# Altium integrated library Maxim Supervisors, Voltage Monitors and Sequencers.IntLib: 631 symbols (part 11 of 13)
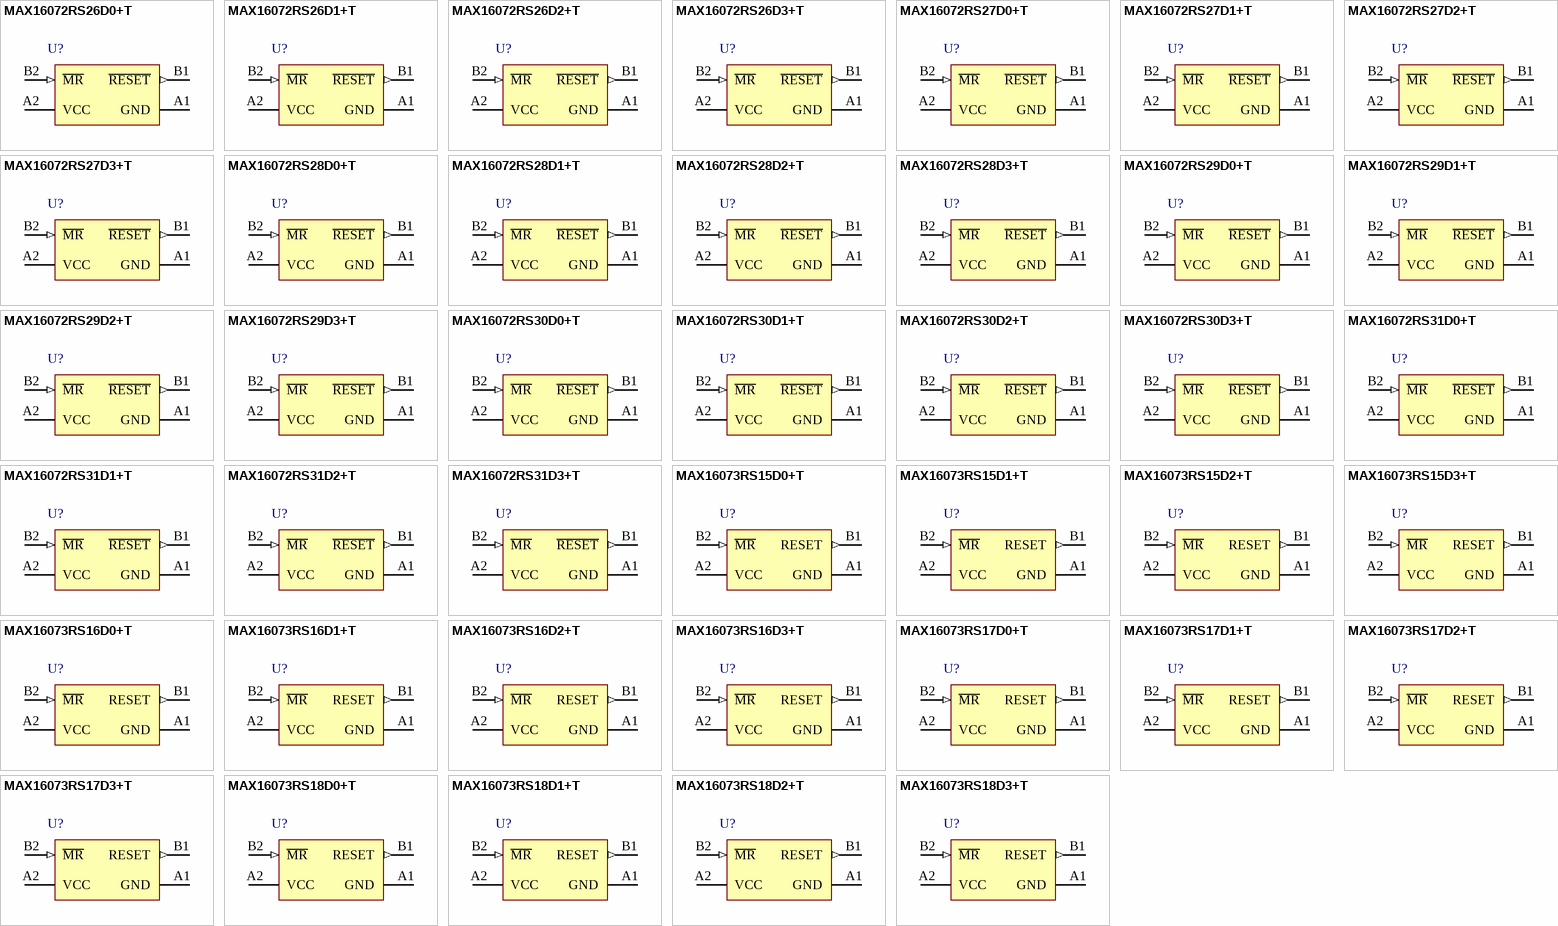
[diagram p27: symbols MAX16072RS26D0+T to MAX16073RS18D3+T]

## MAX16072RS30D3+T
designator U?
uP Supervisory Circuit, push-pull active-low reset, 4-Pin UCSP, -40°C to +85°C, Pb-Free, Tape and Reel; DatasheetVersion: Rev 0, Jan-2010; PackageVersion: revA, 2008; PackageReference: R41C1+1; PackageDescription: 4-Bump Ultra Chip-Scale Package 2x2 Array, 1x1 mm Body, 0.5 mm Pitch, UCSP (R), Pb-Free; ComponentLink1Description: Manufacturer URL; ComponentLink1URL: http://www.maxim-ic.com; ComponentLink2Description: Datasheet; ComponentLink2URL: http://datasheets.maxim-ic.com/en/ds/MAX16072-MAX16074.pdf; ComponentLink3Description: Package Specification; ComponentLink3URL: http://pdfserv.maxim-ic.com/package_dwgs/21-0242.PDF
footprint R41C1+1 (BGA, 4-Leads, Body 1.1x1.1mm, Pitch 0.5mm)
pins: A1 GND (power), A2 VCC (power), B1 ~{RESET} (out), B2 ~{MR} (in)

## MAX16072RS31D0+T
designator U?
uP Supervisory Circuit, push-pull active-low reset, 4-Pin UCSP, -40°C to +85°C, Pb-Free, Tape and Reel; DatasheetVersion: Rev 0, Jan-2010; PackageVersion: revA, 2008; PackageReference: R41C1+1; PackageDescription: 4-Bump Ultra Chip-Scale Package 2x2 Array, 1x1 mm Body, 0.5 mm Pitch, UCSP (R), Pb-Free; ComponentLink1Description: Manufacturer URL; ComponentLink1URL: http://www.maxim-ic.com; ComponentLink2Description: Datasheet; ComponentLink2URL: http://datasheets.maxim-ic.com/en/ds/MAX16072-MAX16074.pdf; ComponentLink3Description: Package Specification; ComponentLink3URL: http://pdfserv.maxim-ic.com/package_dwgs/21-0242.PDF
footprint R41C1+1 (BGA, 4-Leads, Body 1.1x1.1mm, Pitch 0.5mm)
pins: A1 GND (power), A2 VCC (power), B1 ~{RESET} (out), B2 ~{MR} (in)

## MAX16072RS31D1+T
designator U?
uP Supervisory Circuit, push-pull active-low reset, 4-Pin UCSP, -40°C to +85°C, Pb-Free, Tape and Reel; DatasheetVersion: Rev 0, Jan-2010; PackageVersion: revA, 2008; PackageReference: R41C1+1; PackageDescription: 4-Bump Ultra Chip-Scale Package 2x2 Array, 1x1 mm Body, 0.5 mm Pitch, UCSP (R), Pb-Free; ComponentLink1Description: Manufacturer URL; ComponentLink1URL: http://www.maxim-ic.com; ComponentLink2Description: Datasheet; ComponentLink2URL: http://datasheets.maxim-ic.com/en/ds/MAX16072-MAX16074.pdf; ComponentLink3Description: Package Specification; ComponentLink3URL: http://pdfserv.maxim-ic.com/package_dwgs/21-0242.PDF
footprint R41C1+1 (BGA, 4-Leads, Body 1.1x1.1mm, Pitch 0.5mm)
pins: A1 GND (power), A2 VCC (power), B1 ~{RESET} (out), B2 ~{MR} (in)

## MAX16072RS31D2+T
designator U?
uP Supervisory Circuit, push-pull active-low reset, 4-Pin UCSP, -40°C to +85°C, Pb-Free, Tape and Reel; DatasheetVersion: Rev 0, Jan-2010; PackageVersion: revA, 2008; PackageReference: R41C1+1; PackageDescription: 4-Bump Ultra Chip-Scale Package 2x2 Array, 1x1 mm Body, 0.5 mm Pitch, UCSP (R), Pb-Free; ComponentLink1Description: Manufacturer URL; ComponentLink1URL: http://www.maxim-ic.com; ComponentLink2Description: Datasheet; ComponentLink2URL: http://datasheets.maxim-ic.com/en/ds/MAX16072-MAX16074.pdf; ComponentLink3Description: Package Specification; ComponentLink3URL: http://pdfserv.maxim-ic.com/package_dwgs/21-0242.PDF
footprint R41C1+1 (BGA, 4-Leads, Body 1.1x1.1mm, Pitch 0.5mm)
pins: A1 GND (power), A2 VCC (power), B1 ~{RESET} (out), B2 ~{MR} (in)

## MAX16072RS31D3+T
designator U?
uP Supervisory Circuit, push-pull active-low reset, 4-Pin UCSP, -40°C to +85°C, Pb-Free, Tape and Reel; DatasheetVersion: Rev 0, Jan-2010; PackageVersion: revA, 2008; PackageReference: R41C1+1; PackageDescription: 4-Bump Ultra Chip-Scale Package 2x2 Array, 1x1 mm Body, 0.5 mm Pitch, UCSP (R), Pb-Free; ComponentLink1Description: Manufacturer URL; ComponentLink1URL: http://www.maxim-ic.com; ComponentLink2Description: Datasheet; ComponentLink2URL: http://datasheets.maxim-ic.com/en/ds/MAX16072-MAX16074.pdf; ComponentLink3Description: Package Specification; ComponentLink3URL: http://pdfserv.maxim-ic.com/package_dwgs/21-0242.PDF
footprint R41C1+1 (BGA, 4-Leads, Body 1.1x1.1mm, Pitch 0.5mm)
pins: A1 GND (power), A2 VCC (power), B1 ~{RESET} (out), B2 ~{MR} (in)

## MAX16073RS15D0+T
designator U?
uP Supervisory Circuit, push-pull active-high reset, 4-Pin UCSP, -40°C to +85°C, Pb-Free, Tape and Reel; DatasheetVersion: Rev 0, Jan-2010; PackageVersion: revA, 2008; PackageReference: R41C1+1; PackageDescription: 4-Bump Ultra Chip-Scale Package 2x2 Array, 1x1 mm Body, 0.5 mm Pitch, UCSP (R), Pb-Free; ComponentLink1Description: Manufacturer URL; ComponentLink1URL: http://www.maxim-ic.com; ComponentLink2Description: Datasheet; ComponentLink2URL: http://datasheets.maxim-ic.com/en/ds/MAX16072-MAX16074.pdf; ComponentLink3Description: Package Specification; ComponentLink3URL: http://pdfserv.maxim-ic.com/package_dwgs/21-0242.PDF
footprint R41C1+1 (BGA, 4-Leads, Body 1.1x1.1mm, Pitch 0.5mm)
pins: A1 GND (power), A2 VCC (power), B1 RESET (out), B2 ~{MR} (in)

## MAX16073RS15D1+T
designator U?
uP Supervisory Circuit, push-pull active-high reset, 4-Pin UCSP, -40°C to +85°C, Pb-Free, Tape and Reel; DatasheetVersion: Rev 0, Jan-2010; PackageVersion: revA, 2008; PackageReference: R41C1+1; PackageDescription: 4-Bump Ultra Chip-Scale Package 2x2 Array, 1x1 mm Body, 0.5 mm Pitch, UCSP (R), Pb-Free; ComponentLink1Description: Manufacturer URL; ComponentLink1URL: http://www.maxim-ic.com; ComponentLink2Description: Datasheet; ComponentLink2URL: http://datasheets.maxim-ic.com/en/ds/MAX16072-MAX16074.pdf; ComponentLink3Description: Package Specification; ComponentLink3URL: http://pdfserv.maxim-ic.com/package_dwgs/21-0242.PDF
footprint R41C1+1 (BGA, 4-Leads, Body 1.1x1.1mm, Pitch 0.5mm)
pins: A1 GND (power), A2 VCC (power), B1 RESET (out), B2 ~{MR} (in)

## MAX16073RS15D2+T
designator U?
uP Supervisory Circuit, push-pull active-high reset, 4-Pin UCSP, -40°C to +85°C, Pb-Free, Tape and Reel; DatasheetVersion: Rev 0, Jan-2010; PackageVersion: revA, 2008; PackageReference: R41C1+1; PackageDescription: 4-Bump Ultra Chip-Scale Package 2x2 Array, 1x1 mm Body, 0.5 mm Pitch, UCSP (R), Pb-Free; ComponentLink1Description: Manufacturer URL; ComponentLink1URL: http://www.maxim-ic.com; ComponentLink2Description: Datasheet; ComponentLink2URL: http://datasheets.maxim-ic.com/en/ds/MAX16072-MAX16074.pdf; ComponentLink3Description: Package Specification; ComponentLink3URL: http://pdfserv.maxim-ic.com/package_dwgs/21-0242.PDF
footprint R41C1+1 (BGA, 4-Leads, Body 1.1x1.1mm, Pitch 0.5mm)
pins: A1 GND (power), A2 VCC (power), B1 RESET (out), B2 ~{MR} (in)

## MAX16073RS15D3+T
designator U?
uP Supervisory Circuit, push-pull active-high reset, 4-Pin UCSP, -40°C to +85°C, Pb-Free, Tape and Reel; DatasheetVersion: Rev 0, Jan-2010; PackageVersion: revA, 2008; PackageReference: R41C1+1; PackageDescription: 4-Bump Ultra Chip-Scale Package 2x2 Array, 1x1 mm Body, 0.5 mm Pitch, UCSP (R), Pb-Free; ComponentLink1Description: Manufacturer URL; ComponentLink1URL: http://www.maxim-ic.com; ComponentLink2Description: Datasheet; ComponentLink2URL: http://datasheets.maxim-ic.com/en/ds/MAX16072-MAX16074.pdf; ComponentLink3Description: Package Specification; ComponentLink3URL: http://pdfserv.maxim-ic.com/package_dwgs/21-0242.PDF
footprint R41C1+1 (BGA, 4-Leads, Body 1.1x1.1mm, Pitch 0.5mm)
pins: A1 GND (power), A2 VCC (power), B1 RESET (out), B2 ~{MR} (in)

## MAX16073RS16D0+T
designator U?
uP Supervisory Circuit, push-pull active-high reset, 4-Pin UCSP, -40°C to +85°C, Pb-Free, Tape and Reel; DatasheetVersion: Rev 0, Jan-2010; PackageVersion: revA, 2008; PackageReference: R41C1+1; PackageDescription: 4-Bump Ultra Chip-Scale Package 2x2 Array, 1x1 mm Body, 0.5 mm Pitch, UCSP (R), Pb-Free; ComponentLink1Description: Manufacturer URL; ComponentLink1URL: http://www.maxim-ic.com; ComponentLink2Description: Datasheet; ComponentLink2URL: http://datasheets.maxim-ic.com/en/ds/MAX16072-MAX16074.pdf; ComponentLink3Description: Package Specification; ComponentLink3URL: http://pdfserv.maxim-ic.com/package_dwgs/21-0242.PDF
footprint R41C1+1 (BGA, 4-Leads, Body 1.1x1.1mm, Pitch 0.5mm)
pins: A1 GND (power), A2 VCC (power), B1 RESET (out), B2 ~{MR} (in)

## MAX16073RS16D1+T
designator U?
uP Supervisory Circuit, push-pull active-high reset, 4-Pin UCSP, -40°C to +85°C, Pb-Free, Tape and Reel; DatasheetVersion: Rev 0, Jan-2010; PackageVersion: revA, 2008; PackageReference: R41C1+1; PackageDescription: 4-Bump Ultra Chip-Scale Package 2x2 Array, 1x1 mm Body, 0.5 mm Pitch, UCSP (R), Pb-Free; ComponentLink1Description: Manufacturer URL; ComponentLink1URL: http://www.maxim-ic.com; ComponentLink2Description: Datasheet; ComponentLink2URL: http://datasheets.maxim-ic.com/en/ds/MAX16072-MAX16074.pdf; ComponentLink3Description: Package Specification; ComponentLink3URL: http://pdfserv.maxim-ic.com/package_dwgs/21-0242.PDF
footprint R41C1+1 (BGA, 4-Leads, Body 1.1x1.1mm, Pitch 0.5mm)
pins: A1 GND (power), A2 VCC (power), B1 RESET (out), B2 ~{MR} (in)

## MAX16073RS16D2+T
designator U?
uP Supervisory Circuit, push-pull active-high reset, 4-Pin UCSP, -40°C to +85°C, Pb-Free, Tape and Reel; DatasheetVersion: Rev 0, Jan-2010; PackageVersion: revA, 2008; PackageReference: R41C1+1; PackageDescription: 4-Bump Ultra Chip-Scale Package 2x2 Array, 1x1 mm Body, 0.5 mm Pitch, UCSP (R), Pb-Free; ComponentLink1Description: Manufacturer URL; ComponentLink1URL: http://www.maxim-ic.com; ComponentLink2Description: Datasheet; ComponentLink2URL: http://datasheets.maxim-ic.com/en/ds/MAX16072-MAX16074.pdf; ComponentLink3Description: Package Specification; ComponentLink3URL: http://pdfserv.maxim-ic.com/package_dwgs/21-0242.PDF
footprint R41C1+1 (BGA, 4-Leads, Body 1.1x1.1mm, Pitch 0.5mm)
pins: A1 GND (power), A2 VCC (power), B1 RESET (out), B2 ~{MR} (in)

## MAX16073RS16D3+T
designator U?
uP Supervisory Circuit, push-pull active-high reset, 4-Pin UCSP, -40°C to +85°C, Pb-Free, Tape and Reel; DatasheetVersion: Rev 0, Jan-2010; PackageVersion: revA, 2008; PackageReference: R41C1+1; PackageDescription: 4-Bump Ultra Chip-Scale Package 2x2 Array, 1x1 mm Body, 0.5 mm Pitch, UCSP (R), Pb-Free; ComponentLink1Description: Manufacturer URL; ComponentLink1URL: http://www.maxim-ic.com; ComponentLink2Description: Datasheet; ComponentLink2URL: http://datasheets.maxim-ic.com/en/ds/MAX16072-MAX16074.pdf; ComponentLink3Description: Package Specification; ComponentLink3URL: http://pdfserv.maxim-ic.com/package_dwgs/21-0242.PDF
footprint R41C1+1 (BGA, 4-Leads, Body 1.1x1.1mm, Pitch 0.5mm)
pins: A1 GND (power), A2 VCC (power), B1 RESET (out), B2 ~{MR} (in)

## MAX16073RS17D0+T
designator U?
uP Supervisory Circuit, push-pull active-high reset, 4-Pin UCSP, -40°C to +85°C, Pb-Free, Tape and Reel; DatasheetVersion: Rev 0, Jan-2010; PackageVersion: revA, 2008; PackageReference: R41C1+1; PackageDescription: 4-Bump Ultra Chip-Scale Package 2x2 Array, 1x1 mm Body, 0.5 mm Pitch, UCSP (R), Pb-Free; ComponentLink1Description: Manufacturer URL; ComponentLink1URL: http://www.maxim-ic.com; ComponentLink2Description: Datasheet; ComponentLink2URL: http://datasheets.maxim-ic.com/en/ds/MAX16072-MAX16074.pdf; ComponentLink3Description: Package Specification; ComponentLink3URL: http://pdfserv.maxim-ic.com/package_dwgs/21-0242.PDF
footprint R41C1+1 (BGA, 4-Leads, Body 1.1x1.1mm, Pitch 0.5mm)
pins: A1 GND (power), A2 VCC (power), B1 RESET (out), B2 ~{MR} (in)

## MAX16073RS17D1+T
designator U?
uP Supervisory Circuit, push-pull active-high reset, 4-Pin UCSP, -40°C to +85°C, Pb-Free, Tape and Reel; DatasheetVersion: Rev 0, Jan-2010; PackageVersion: revA, 2008; PackageReference: R41C1+1; PackageDescription: 4-Bump Ultra Chip-Scale Package 2x2 Array, 1x1 mm Body, 0.5 mm Pitch, UCSP (R), Pb-Free; ComponentLink1Description: Manufacturer URL; ComponentLink1URL: http://www.maxim-ic.com; ComponentLink2Description: Datasheet; ComponentLink2URL: http://datasheets.maxim-ic.com/en/ds/MAX16072-MAX16074.pdf; ComponentLink3Description: Package Specification; ComponentLink3URL: http://pdfserv.maxim-ic.com/package_dwgs/21-0242.PDF
footprint R41C1+1 (BGA, 4-Leads, Body 1.1x1.1mm, Pitch 0.5mm)
pins: A1 GND (power), A2 VCC (power), B1 RESET (out), B2 ~{MR} (in)

## MAX16073RS17D2+T
designator U?
uP Supervisory Circuit, push-pull active-high reset, 4-Pin UCSP, -40°C to +85°C, Pb-Free, Tape and Reel; DatasheetVersion: Rev 0, Jan-2010; PackageVersion: revA, 2008; PackageReference: R41C1+1; PackageDescription: 4-Bump Ultra Chip-Scale Package 2x2 Array, 1x1 mm Body, 0.5 mm Pitch, UCSP (R), Pb-Free; ComponentLink1Description: Manufacturer URL; ComponentLink1URL: http://www.maxim-ic.com; ComponentLink2Description: Datasheet; ComponentLink2URL: http://datasheets.maxim-ic.com/en/ds/MAX16072-MAX16074.pdf; ComponentLink3Description: Package Specification; ComponentLink3URL: http://pdfserv.maxim-ic.com/package_dwgs/21-0242.PDF
footprint R41C1+1 (BGA, 4-Leads, Body 1.1x1.1mm, Pitch 0.5mm)
pins: A1 GND (power), A2 VCC (power), B1 RESET (out), B2 ~{MR} (in)

## MAX16073RS17D3+T
designator U?
uP Supervisory Circuit, push-pull active-high reset, 4-Pin UCSP, -40°C to +85°C, Pb-Free, Tape and Reel; DatasheetVersion: Rev 0, Jan-2010; PackageVersion: revA, 2008; PackageReference: R41C1+1; PackageDescription: 4-Bump Ultra Chip-Scale Package 2x2 Array, 1x1 mm Body, 0.5 mm Pitch, UCSP (R), Pb-Free; ComponentLink1Description: Manufacturer URL; ComponentLink1URL: http://www.maxim-ic.com; ComponentLink2Description: Datasheet; ComponentLink2URL: http://datasheets.maxim-ic.com/en/ds/MAX16072-MAX16074.pdf; ComponentLink3Description: Package Specification; ComponentLink3URL: http://pdfserv.maxim-ic.com/package_dwgs/21-0242.PDF
footprint R41C1+1 (BGA, 4-Leads, Body 1.1x1.1mm, Pitch 0.5mm)
pins: A1 GND (power), A2 VCC (power), B1 RESET (out), B2 ~{MR} (in)

## MAX16073RS18D0+T
designator U?
uP Supervisory Circuit, push-pull active-high reset, 4-Pin UCSP, -40°C to +85°C, Pb-Free, Tape and Reel; DatasheetVersion: Rev 0, Jan-2010; PackageVersion: revA, 2008; PackageReference: R41C1+1; PackageDescription: 4-Bump Ultra Chip-Scale Package 2x2 Array, 1x1 mm Body, 0.5 mm Pitch, UCSP (R), Pb-Free; ComponentLink1Description: Manufacturer URL; ComponentLink1URL: http://www.maxim-ic.com; ComponentLink2Description: Datasheet; ComponentLink2URL: http://datasheets.maxim-ic.com/en/ds/MAX16072-MAX16074.pdf; ComponentLink3Description: Package Specification; ComponentLink3URL: http://pdfserv.maxim-ic.com/package_dwgs/21-0242.PDF
footprint R41C1+1 (BGA, 4-Leads, Body 1.1x1.1mm, Pitch 0.5mm)
pins: A1 GND (power), A2 VCC (power), B1 RESET (out), B2 ~{MR} (in)

## MAX16073RS18D1+T
designator U?
uP Supervisory Circuit, push-pull active-high reset, 4-Pin UCSP, -40°C to +85°C, Pb-Free, Tape and Reel; DatasheetVersion: Rev 0, Jan-2010; PackageVersion: revA, 2008; PackageReference: R41C1+1; PackageDescription: 4-Bump Ultra Chip-Scale Package 2x2 Array, 1x1 mm Body, 0.5 mm Pitch, UCSP (R), Pb-Free; ComponentLink1Description: Manufacturer URL; ComponentLink1URL: http://www.maxim-ic.com; ComponentLink2Description: Datasheet; ComponentLink2URL: http://datasheets.maxim-ic.com/en/ds/MAX16072-MAX16074.pdf; ComponentLink3Description: Package Specification; ComponentLink3URL: http://pdfserv.maxim-ic.com/package_dwgs/21-0242.PDF
footprint R41C1+1 (BGA, 4-Leads, Body 1.1x1.1mm, Pitch 0.5mm)
pins: A1 GND (power), A2 VCC (power), B1 RESET (out), B2 ~{MR} (in)

## MAX16073RS18D2+T
designator U?
uP Supervisory Circuit, push-pull active-high reset, 4-Pin UCSP, -40°C to +85°C, Pb-Free, Tape and Reel; DatasheetVersion: Rev 0, Jan-2010; PackageVersion: revA, 2008; PackageReference: R41C1+1; PackageDescription: 4-Bump Ultra Chip-Scale Package 2x2 Array, 1x1 mm Body, 0.5 mm Pitch, UCSP (R), Pb-Free; ComponentLink1Description: Manufacturer URL; ComponentLink1URL: http://www.maxim-ic.com; ComponentLink2Description: Datasheet; ComponentLink2URL: http://datasheets.maxim-ic.com/en/ds/MAX16072-MAX16074.pdf; ComponentLink3Description: Package Specification; ComponentLink3URL: http://pdfserv.maxim-ic.com/package_dwgs/21-0242.PDF
footprint R41C1+1 (BGA, 4-Leads, Body 1.1x1.1mm, Pitch 0.5mm)
pins: A1 GND (power), A2 VCC (power), B1 RESET (out), B2 ~{MR} (in)

## MAX16073RS18D3+T
designator U?
uP Supervisory Circuit, push-pull active-high reset, 4-Pin UCSP, -40°C to +85°C, Pb-Free, Tape and Reel; DatasheetVersion: Rev 0, Jan-2010; PackageVersion: revA, 2008; PackageReference: R41C1+1; PackageDescription: 4-Bump Ultra Chip-Scale Package 2x2 Array, 1x1 mm Body, 0.5 mm Pitch, UCSP (R), Pb-Free; ComponentLink1Description: Manufacturer URL; ComponentLink1URL: http://www.maxim-ic.com; ComponentLink2Description: Datasheet; ComponentLink2URL: http://datasheets.maxim-ic.com/en/ds/MAX16072-MAX16074.pdf; ComponentLink3Description: Package Specification; ComponentLink3URL: http://pdfserv.maxim-ic.com/package_dwgs/21-0242.PDF
footprint R41C1+1 (BGA, 4-Leads, Body 1.1x1.1mm, Pitch 0.5mm)
pins: A1 GND (power), A2 VCC (power), B1 RESET (out), B2 ~{MR} (in)

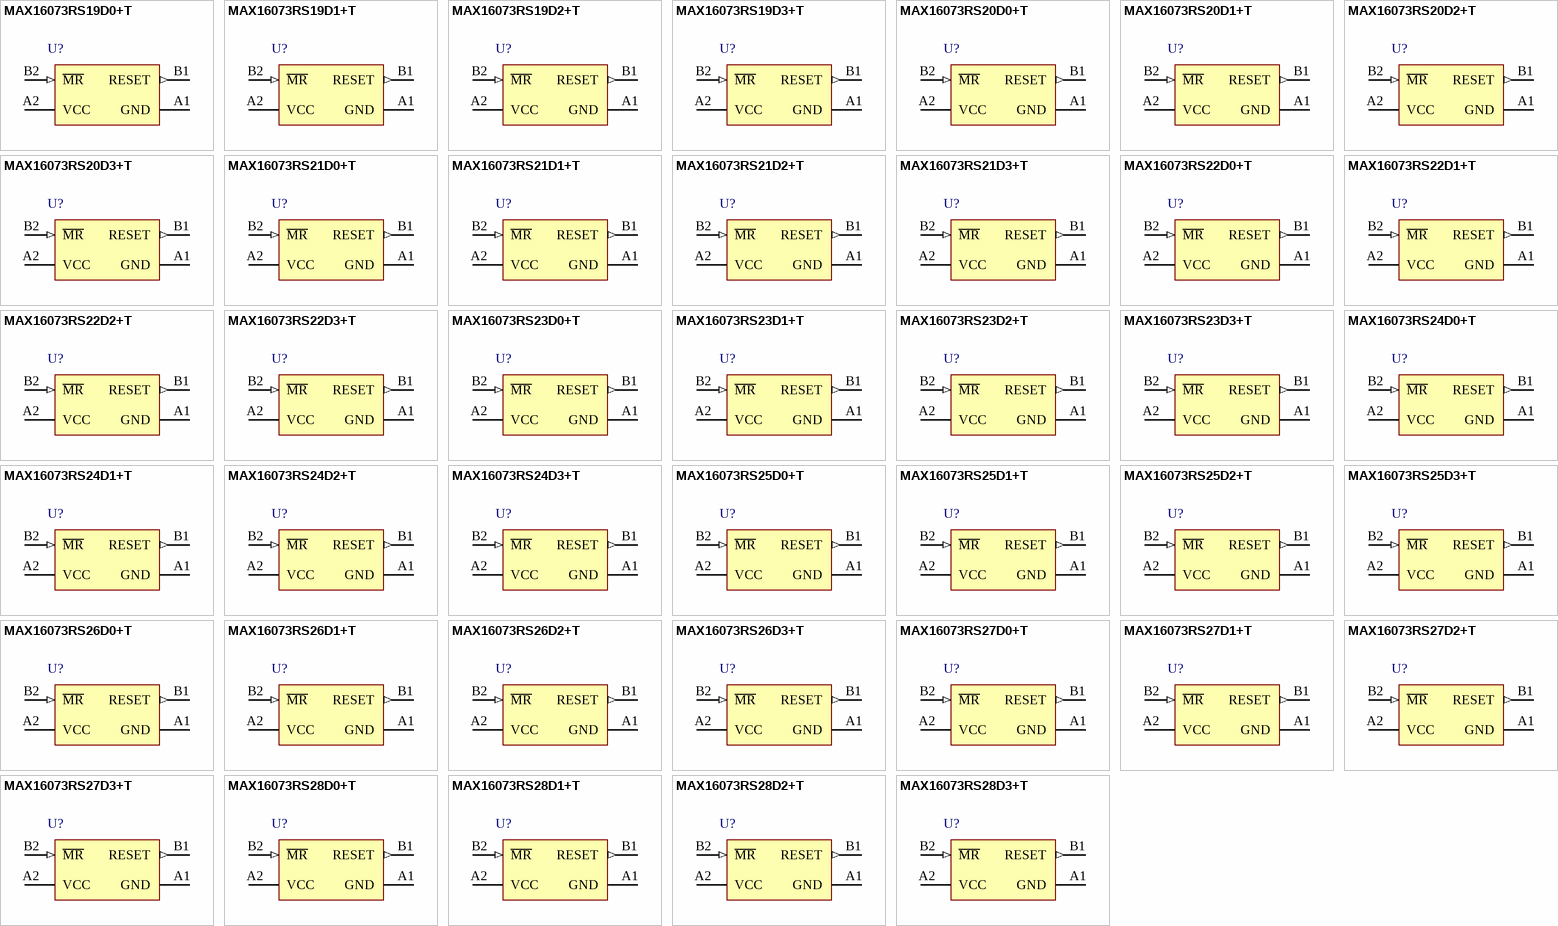
[diagram p14: symbols MAX16073RS19D0+T to MAX16073RS28D3+T]

## MAX16073RS19D0+T
designator U?
uP Supervisory Circuit, push-pull active-high reset, 4-Pin UCSP, -40°C to +85°C, Pb-Free, Tape and Reel; DatasheetVersion: Rev 0, Jan-2010; PackageVersion: revA, 2008; PackageReference: R41C1+1; PackageDescription: 4-Bump Ultra Chip-Scale Package 2x2 Array, 1x1 mm Body, 0.5 mm Pitch, UCSP (R), Pb-Free; ComponentLink1Description: Manufacturer URL; ComponentLink1URL: http://www.maxim-ic.com; ComponentLink2Description: Datasheet; ComponentLink2URL: http://datasheets.maxim-ic.com/en/ds/MAX16072-MAX16074.pdf; ComponentLink3Description: Package Specification; ComponentLink3URL: http://pdfserv.maxim-ic.com/package_dwgs/21-0242.PDF
footprint R41C1+1 (BGA, 4-Leads, Body 1.1x1.1mm, Pitch 0.5mm)
pins: A1 GND (power), A2 VCC (power), B1 RESET (out), B2 ~{MR} (in)

## MAX16073RS19D1+T
designator U?
uP Supervisory Circuit, push-pull active-high reset, 4-Pin UCSP, -40°C to +85°C, Pb-Free, Tape and Reel; DatasheetVersion: Rev 0, Jan-2010; PackageVersion: revA, 2008; PackageReference: R41C1+1; PackageDescription: 4-Bump Ultra Chip-Scale Package 2x2 Array, 1x1 mm Body, 0.5 mm Pitch, UCSP (R), Pb-Free; ComponentLink1Description: Manufacturer URL; ComponentLink1URL: http://www.maxim-ic.com; ComponentLink2Description: Datasheet; ComponentLink2URL: http://datasheets.maxim-ic.com/en/ds/MAX16072-MAX16074.pdf; ComponentLink3Description: Package Specification; ComponentLink3URL: http://pdfserv.maxim-ic.com/package_dwgs/21-0242.PDF
footprint R41C1+1 (BGA, 4-Leads, Body 1.1x1.1mm, Pitch 0.5mm)
pins: A1 GND (power), A2 VCC (power), B1 RESET (out), B2 ~{MR} (in)

## MAX16073RS19D2+T
designator U?
uP Supervisory Circuit, push-pull active-high reset, 4-Pin UCSP, -40°C to +85°C, Pb-Free, Tape and Reel; DatasheetVersion: Rev 0, Jan-2010; PackageVersion: revA, 2008; PackageReference: R41C1+1; PackageDescription: 4-Bump Ultra Chip-Scale Package 2x2 Array, 1x1 mm Body, 0.5 mm Pitch, UCSP (R), Pb-Free; ComponentLink1Description: Manufacturer URL; ComponentLink1URL: http://www.maxim-ic.com; ComponentLink2Description: Datasheet; ComponentLink2URL: http://datasheets.maxim-ic.com/en/ds/MAX16072-MAX16074.pdf; ComponentLink3Description: Package Specification; ComponentLink3URL: http://pdfserv.maxim-ic.com/package_dwgs/21-0242.PDF
footprint R41C1+1 (BGA, 4-Leads, Body 1.1x1.1mm, Pitch 0.5mm)
pins: A1 GND (power), A2 VCC (power), B1 RESET (out), B2 ~{MR} (in)

## MAX16073RS19D3+T
designator U?
uP Supervisory Circuit, push-pull active-high reset, 4-Pin UCSP, -40°C to +85°C, Pb-Free, Tape and Reel; DatasheetVersion: Rev 0, Jan-2010; PackageVersion: revA, 2008; PackageReference: R41C1+1; PackageDescription: 4-Bump Ultra Chip-Scale Package 2x2 Array, 1x1 mm Body, 0.5 mm Pitch, UCSP (R), Pb-Free; ComponentLink1Description: Manufacturer URL; ComponentLink1URL: http://www.maxim-ic.com; ComponentLink2Description: Datasheet; ComponentLink2URL: http://datasheets.maxim-ic.com/en/ds/MAX16072-MAX16074.pdf; ComponentLink3Description: Package Specification; ComponentLink3URL: http://pdfserv.maxim-ic.com/package_dwgs/21-0242.PDF
footprint R41C1+1 (BGA, 4-Leads, Body 1.1x1.1mm, Pitch 0.5mm)
pins: A1 GND (power), A2 VCC (power), B1 RESET (out), B2 ~{MR} (in)

## MAX16073RS20D0+T
designator U?
uP Supervisory Circuit, push-pull active-high reset, 4-Pin UCSP, -40°C to +85°C, Pb-Free, Tape and Reel; DatasheetVersion: Rev 0, Jan-2010; PackageVersion: revA, 2008; PackageReference: R41C1+1; PackageDescription: 4-Bump Ultra Chip-Scale Package 2x2 Array, 1x1 mm Body, 0.5 mm Pitch, UCSP (R), Pb-Free; ComponentLink1Description: Manufacturer URL; ComponentLink1URL: http://www.maxim-ic.com; ComponentLink2Description: Datasheet; ComponentLink2URL: http://datasheets.maxim-ic.com/en/ds/MAX16072-MAX16074.pdf; ComponentLink3Description: Package Specification; ComponentLink3URL: http://pdfserv.maxim-ic.com/package_dwgs/21-0242.PDF
footprint R41C1+1 (BGA, 4-Leads, Body 1.1x1.1mm, Pitch 0.5mm)
pins: A1 GND (power), A2 VCC (power), B1 RESET (out), B2 ~{MR} (in)

## MAX16073RS20D1+T
designator U?
uP Supervisory Circuit, push-pull active-high reset, 4-Pin UCSP, -40°C to +85°C, Pb-Free, Tape and Reel; DatasheetVersion: Rev 0, Jan-2010; PackageVersion: revA, 2008; PackageReference: R41C1+1; PackageDescription: 4-Bump Ultra Chip-Scale Package 2x2 Array, 1x1 mm Body, 0.5 mm Pitch, UCSP (R), Pb-Free; ComponentLink1Description: Manufacturer URL; ComponentLink1URL: http://www.maxim-ic.com; ComponentLink2Description: Datasheet; ComponentLink2URL: http://datasheets.maxim-ic.com/en/ds/MAX16072-MAX16074.pdf; ComponentLink3Description: Package Specification; ComponentLink3URL: http://pdfserv.maxim-ic.com/package_dwgs/21-0242.PDF
footprint R41C1+1 (BGA, 4-Leads, Body 1.1x1.1mm, Pitch 0.5mm)
pins: A1 GND (power), A2 VCC (power), B1 RESET (out), B2 ~{MR} (in)

## MAX16073RS20D2+T
designator U?
uP Supervisory Circuit, push-pull active-high reset, 4-Pin UCSP, -40°C to +85°C, Pb-Free, Tape and Reel; DatasheetVersion: Rev 0, Jan-2010; PackageVersion: revA, 2008; PackageReference: R41C1+1; PackageDescription: 4-Bump Ultra Chip-Scale Package 2x2 Array, 1x1 mm Body, 0.5 mm Pitch, UCSP (R), Pb-Free; ComponentLink1Description: Manufacturer URL; ComponentLink1URL: http://www.maxim-ic.com; ComponentLink2Description: Datasheet; ComponentLink2URL: http://datasheets.maxim-ic.com/en/ds/MAX16072-MAX16074.pdf; ComponentLink3Description: Package Specification; ComponentLink3URL: http://pdfserv.maxim-ic.com/package_dwgs/21-0242.PDF
footprint R41C1+1 (BGA, 4-Leads, Body 1.1x1.1mm, Pitch 0.5mm)
pins: A1 GND (power), A2 VCC (power), B1 RESET (out), B2 ~{MR} (in)

## MAX16073RS20D3+T
designator U?
uP Supervisory Circuit, push-pull active-high reset, 4-Pin UCSP, -40°C to +85°C, Pb-Free, Tape and Reel; DatasheetVersion: Rev 0, Jan-2010; PackageVersion: revA, 2008; PackageReference: R41C1+1; PackageDescription: 4-Bump Ultra Chip-Scale Package 2x2 Array, 1x1 mm Body, 0.5 mm Pitch, UCSP (R), Pb-Free; ComponentLink1Description: Manufacturer URL; ComponentLink1URL: http://www.maxim-ic.com; ComponentLink2Description: Datasheet; ComponentLink2URL: http://datasheets.maxim-ic.com/en/ds/MAX16072-MAX16074.pdf; ComponentLink3Description: Package Specification; ComponentLink3URL: http://pdfserv.maxim-ic.com/package_dwgs/21-0242.PDF
footprint R41C1+1 (BGA, 4-Leads, Body 1.1x1.1mm, Pitch 0.5mm)
pins: A1 GND (power), A2 VCC (power), B1 RESET (out), B2 ~{MR} (in)

## MAX16073RS21D0+T
designator U?
uP Supervisory Circuit, push-pull active-high reset, 4-Pin UCSP, -40°C to +85°C, Pb-Free, Tape and Reel; DatasheetVersion: Rev 0, Jan-2010; PackageVersion: revA, 2008; PackageReference: R41C1+1; PackageDescription: 4-Bump Ultra Chip-Scale Package 2x2 Array, 1x1 mm Body, 0.5 mm Pitch, UCSP (R), Pb-Free; ComponentLink1Description: Manufacturer URL; ComponentLink1URL: http://www.maxim-ic.com; ComponentLink2Description: Datasheet; ComponentLink2URL: http://datasheets.maxim-ic.com/en/ds/MAX16072-MAX16074.pdf; ComponentLink3Description: Package Specification; ComponentLink3URL: http://pdfserv.maxim-ic.com/package_dwgs/21-0242.PDF
footprint R41C1+1 (BGA, 4-Leads, Body 1.1x1.1mm, Pitch 0.5mm)
pins: A1 GND (power), A2 VCC (power), B1 RESET (out), B2 ~{MR} (in)

## MAX16073RS21D1+T
designator U?
uP Supervisory Circuit, push-pull active-high reset, 4-Pin UCSP, -40°C to +85°C, Pb-Free, Tape and Reel; DatasheetVersion: Rev 0, Jan-2010; PackageVersion: revA, 2008; PackageReference: R41C1+1; PackageDescription: 4-Bump Ultra Chip-Scale Package 2x2 Array, 1x1 mm Body, 0.5 mm Pitch, UCSP (R), Pb-Free; ComponentLink1Description: Manufacturer URL; ComponentLink1URL: http://www.maxim-ic.com; ComponentLink2Description: Datasheet; ComponentLink2URL: http://datasheets.maxim-ic.com/en/ds/MAX16072-MAX16074.pdf; ComponentLink3Description: Package Specification; ComponentLink3URL: http://pdfserv.maxim-ic.com/package_dwgs/21-0242.PDF
footprint R41C1+1 (BGA, 4-Leads, Body 1.1x1.1mm, Pitch 0.5mm)
pins: A1 GND (power), A2 VCC (power), B1 RESET (out), B2 ~{MR} (in)

## MAX16073RS21D2+T
designator U?
uP Supervisory Circuit, push-pull active-high reset, 4-Pin UCSP, -40°C to +85°C, Pb-Free, Tape and Reel; DatasheetVersion: Rev 0, Jan-2010; PackageVersion: revA, 2008; PackageReference: R41C1+1; PackageDescription: 4-Bump Ultra Chip-Scale Package 2x2 Array, 1x1 mm Body, 0.5 mm Pitch, UCSP (R), Pb-Free; ComponentLink1Description: Manufacturer URL; ComponentLink1URL: http://www.maxim-ic.com; ComponentLink2Description: Datasheet; ComponentLink2URL: http://datasheets.maxim-ic.com/en/ds/MAX16072-MAX16074.pdf; ComponentLink3Description: Package Specification; ComponentLink3URL: http://pdfserv.maxim-ic.com/package_dwgs/21-0242.PDF
footprint R41C1+1 (BGA, 4-Leads, Body 1.1x1.1mm, Pitch 0.5mm)
pins: A1 GND (power), A2 VCC (power), B1 RESET (out), B2 ~{MR} (in)

## MAX16073RS21D3+T
designator U?
uP Supervisory Circuit, push-pull active-high reset, 4-Pin UCSP, -40°C to +85°C, Pb-Free, Tape and Reel; DatasheetVersion: Rev 0, Jan-2010; PackageVersion: revA, 2008; PackageReference: R41C1+1; PackageDescription: 4-Bump Ultra Chip-Scale Package 2x2 Array, 1x1 mm Body, 0.5 mm Pitch, UCSP (R), Pb-Free; ComponentLink1Description: Manufacturer URL; ComponentLink1URL: http://www.maxim-ic.com; ComponentLink2Description: Datasheet; ComponentLink2URL: http://datasheets.maxim-ic.com/en/ds/MAX16072-MAX16074.pdf; ComponentLink3Description: Package Specification; ComponentLink3URL: http://pdfserv.maxim-ic.com/package_dwgs/21-0242.PDF
footprint R41C1+1 (BGA, 4-Leads, Body 1.1x1.1mm, Pitch 0.5mm)
pins: A1 GND (power), A2 VCC (power), B1 RESET (out), B2 ~{MR} (in)

## MAX16073RS22D0+T
designator U?
uP Supervisory Circuit, push-pull active-high reset, 4-Pin UCSP, -40°C to +85°C, Pb-Free, Tape and Reel; DatasheetVersion: Rev 0, Jan-2010; PackageVersion: revA, 2008; PackageReference: R41C1+1; PackageDescription: 4-Bump Ultra Chip-Scale Package 2x2 Array, 1x1 mm Body, 0.5 mm Pitch, UCSP (R), Pb-Free; ComponentLink1Description: Manufacturer URL; ComponentLink1URL: http://www.maxim-ic.com; ComponentLink2Description: Datasheet; ComponentLink2URL: http://datasheets.maxim-ic.com/en/ds/MAX16072-MAX16074.pdf; ComponentLink3Description: Package Specification; ComponentLink3URL: http://pdfserv.maxim-ic.com/package_dwgs/21-0242.PDF
footprint R41C1+1 (BGA, 4-Leads, Body 1.1x1.1mm, Pitch 0.5mm)
pins: A1 GND (power), A2 VCC (power), B1 RESET (out), B2 ~{MR} (in)

## MAX16073RS22D1+T
designator U?
uP Supervisory Circuit, push-pull active-high reset, 4-Pin UCSP, -40°C to +85°C, Pb-Free, Tape and Reel; DatasheetVersion: Rev 0, Jan-2010; PackageVersion: revA, 2008; PackageReference: R41C1+1; PackageDescription: 4-Bump Ultra Chip-Scale Package 2x2 Array, 1x1 mm Body, 0.5 mm Pitch, UCSP (R), Pb-Free; ComponentLink1Description: Manufacturer URL; ComponentLink1URL: http://www.maxim-ic.com; ComponentLink2Description: Datasheet; ComponentLink2URL: http://datasheets.maxim-ic.com/en/ds/MAX16072-MAX16074.pdf; ComponentLink3Description: Package Specification; ComponentLink3URL: http://pdfserv.maxim-ic.com/package_dwgs/21-0242.PDF
footprint R41C1+1 (BGA, 4-Leads, Body 1.1x1.1mm, Pitch 0.5mm)
pins: A1 GND (power), A2 VCC (power), B1 RESET (out), B2 ~{MR} (in)

## MAX16073RS22D2+T
designator U?
uP Supervisory Circuit, push-pull active-high reset, 4-Pin UCSP, -40°C to +85°C, Pb-Free, Tape and Reel; DatasheetVersion: Rev 0, Jan-2010; PackageVersion: revA, 2008; PackageReference: R41C1+1; PackageDescription: 4-Bump Ultra Chip-Scale Package 2x2 Array, 1x1 mm Body, 0.5 mm Pitch, UCSP (R), Pb-Free; ComponentLink1Description: Manufacturer URL; ComponentLink1URL: http://www.maxim-ic.com; ComponentLink2Description: Datasheet; ComponentLink2URL: http://datasheets.maxim-ic.com/en/ds/MAX16072-MAX16074.pdf; ComponentLink3Description: Package Specification; ComponentLink3URL: http://pdfserv.maxim-ic.com/package_dwgs/21-0242.PDF
footprint R41C1+1 (BGA, 4-Leads, Body 1.1x1.1mm, Pitch 0.5mm)
pins: A1 GND (power), A2 VCC (power), B1 RESET (out), B2 ~{MR} (in)

## MAX16073RS22D3+T
designator U?
uP Supervisory Circuit, push-pull active-high reset, 4-Pin UCSP, -40°C to +85°C, Pb-Free, Tape and Reel; DatasheetVersion: Rev 0, Jan-2010; PackageVersion: revA, 2008; PackageReference: R41C1+1; PackageDescription: 4-Bump Ultra Chip-Scale Package 2x2 Array, 1x1 mm Body, 0.5 mm Pitch, UCSP (R), Pb-Free; ComponentLink1Description: Manufacturer URL; ComponentLink1URL: http://www.maxim-ic.com; ComponentLink2Description: Datasheet; ComponentLink2URL: http://datasheets.maxim-ic.com/en/ds/MAX16072-MAX16074.pdf; ComponentLink3Description: Package Specification; ComponentLink3URL: http://pdfserv.maxim-ic.com/package_dwgs/21-0242.PDF
footprint R41C1+1 (BGA, 4-Leads, Body 1.1x1.1mm, Pitch 0.5mm)
pins: A1 GND (power), A2 VCC (power), B1 RESET (out), B2 ~{MR} (in)

## MAX16073RS23D0+T
designator U?
uP Supervisory Circuit, push-pull active-high reset, 4-Pin UCSP, -40°C to +85°C, Pb-Free, Tape and Reel; DatasheetVersion: Rev 0, Jan-2010; PackageVersion: revA, 2008; PackageReference: R41C1+1; PackageDescription: 4-Bump Ultra Chip-Scale Package 2x2 Array, 1x1 mm Body, 0.5 mm Pitch, UCSP (R), Pb-Free; ComponentLink1Description: Manufacturer URL; ComponentLink1URL: http://www.maxim-ic.com; ComponentLink2Description: Datasheet; ComponentLink2URL: http://datasheets.maxim-ic.com/en/ds/MAX16072-MAX16074.pdf; ComponentLink3Description: Package Specification; ComponentLink3URL: http://pdfserv.maxim-ic.com/package_dwgs/21-0242.PDF
footprint R41C1+1 (BGA, 4-Leads, Body 1.1x1.1mm, Pitch 0.5mm)
pins: A1 GND (power), A2 VCC (power), B1 RESET (out), B2 ~{MR} (in)

## MAX16073RS23D1+T
designator U?
uP Supervisory Circuit, push-pull active-high reset, 4-Pin UCSP, -40°C to +85°C, Pb-Free, Tape and Reel; DatasheetVersion: Rev 0, Jan-2010; PackageVersion: revA, 2008; PackageReference: R41C1+1; PackageDescription: 4-Bump Ultra Chip-Scale Package 2x2 Array, 1x1 mm Body, 0.5 mm Pitch, UCSP (R), Pb-Free; ComponentLink1Description: Manufacturer URL; ComponentLink1URL: http://www.maxim-ic.com; ComponentLink2Description: Datasheet; ComponentLink2URL: http://datasheets.maxim-ic.com/en/ds/MAX16072-MAX16074.pdf; ComponentLink3Description: Package Specification; ComponentLink3URL: http://pdfserv.maxim-ic.com/package_dwgs/21-0242.PDF
footprint R41C1+1 (BGA, 4-Leads, Body 1.1x1.1mm, Pitch 0.5mm)
pins: A1 GND (power), A2 VCC (power), B1 RESET (out), B2 ~{MR} (in)

## MAX16073RS23D2+T
designator U?
uP Supervisory Circuit, push-pull active-high reset, 4-Pin UCSP, -40°C to +85°C, Pb-Free, Tape and Reel; DatasheetVersion: Rev 0, Jan-2010; PackageVersion: revA, 2008; PackageReference: R41C1+1; PackageDescription: 4-Bump Ultra Chip-Scale Package 2x2 Array, 1x1 mm Body, 0.5 mm Pitch, UCSP (R), Pb-Free; ComponentLink1Description: Manufacturer URL; ComponentLink1URL: http://www.maxim-ic.com; ComponentLink2Description: Datasheet; ComponentLink2URL: http://datasheets.maxim-ic.com/en/ds/MAX16072-MAX16074.pdf; ComponentLink3Description: Package Specification; ComponentLink3URL: http://pdfserv.maxim-ic.com/package_dwgs/21-0242.PDF
footprint R41C1+1 (BGA, 4-Leads, Body 1.1x1.1mm, Pitch 0.5mm)
pins: A1 GND (power), A2 VCC (power), B1 RESET (out), B2 ~{MR} (in)

## MAX16073RS23D3+T
designator U?
uP Supervisory Circuit, push-pull active-high reset, 4-Pin UCSP, -40°C to +85°C, Pb-Free, Tape and Reel; DatasheetVersion: Rev 0, Jan-2010; PackageVersion: revA, 2008; PackageReference: R41C1+1; PackageDescription: 4-Bump Ultra Chip-Scale Package 2x2 Array, 1x1 mm Body, 0.5 mm Pitch, UCSP (R), Pb-Free; ComponentLink1Description: Manufacturer URL; ComponentLink1URL: http://www.maxim-ic.com; ComponentLink2Description: Datasheet; ComponentLink2URL: http://datasheets.maxim-ic.com/en/ds/MAX16072-MAX16074.pdf; ComponentLink3Description: Package Specification; ComponentLink3URL: http://pdfserv.maxim-ic.com/package_dwgs/21-0242.PDF
footprint R41C1+1 (BGA, 4-Leads, Body 1.1x1.1mm, Pitch 0.5mm)
pins: A1 GND (power), A2 VCC (power), B1 RESET (out), B2 ~{MR} (in)

## MAX16073RS24D0+T
designator U?
uP Supervisory Circuit, push-pull active-high reset, 4-Pin UCSP, -40°C to +85°C, Pb-Free, Tape and Reel; DatasheetVersion: Rev 0, Jan-2010; PackageVersion: revA, 2008; PackageReference: R41C1+1; PackageDescription: 4-Bump Ultra Chip-Scale Package 2x2 Array, 1x1 mm Body, 0.5 mm Pitch, UCSP (R), Pb-Free; ComponentLink1Description: Manufacturer URL; ComponentLink1URL: http://www.maxim-ic.com; ComponentLink2Description: Datasheet; ComponentLink2URL: http://datasheets.maxim-ic.com/en/ds/MAX16072-MAX16074.pdf; ComponentLink3Description: Package Specification; ComponentLink3URL: http://pdfserv.maxim-ic.com/package_dwgs/21-0242.PDF
footprint R41C1+1 (BGA, 4-Leads, Body 1.1x1.1mm, Pitch 0.5mm)
pins: A1 GND (power), A2 VCC (power), B1 RESET (out), B2 ~{MR} (in)

## MAX16073RS24D1+T
designator U?
uP Supervisory Circuit, push-pull active-high reset, 4-Pin UCSP, -40°C to +85°C, Pb-Free, Tape and Reel; DatasheetVersion: Rev 0, Jan-2010; PackageVersion: revA, 2008; PackageReference: R41C1+1; PackageDescription: 4-Bump Ultra Chip-Scale Package 2x2 Array, 1x1 mm Body, 0.5 mm Pitch, UCSP (R), Pb-Free; ComponentLink1Description: Manufacturer URL; ComponentLink1URL: http://www.maxim-ic.com; ComponentLink2Description: Datasheet; ComponentLink2URL: http://datasheets.maxim-ic.com/en/ds/MAX16072-MAX16074.pdf; ComponentLink3Description: Package Specification; ComponentLink3URL: http://pdfserv.maxim-ic.com/package_dwgs/21-0242.PDF
footprint R41C1+1 (BGA, 4-Leads, Body 1.1x1.1mm, Pitch 0.5mm)
pins: A1 GND (power), A2 VCC (power), B1 RESET (out), B2 ~{MR} (in)

## MAX16073RS24D2+T
designator U?
uP Supervisory Circuit, push-pull active-high reset, 4-Pin UCSP, -40°C to +85°C, Pb-Free, Tape and Reel; DatasheetVersion: Rev 0, Jan-2010; PackageVersion: revA, 2008; PackageReference: R41C1+1; PackageDescription: 4-Bump Ultra Chip-Scale Package 2x2 Array, 1x1 mm Body, 0.5 mm Pitch, UCSP (R), Pb-Free; ComponentLink1Description: Manufacturer URL; ComponentLink1URL: http://www.maxim-ic.com; ComponentLink2Description: Datasheet; ComponentLink2URL: http://datasheets.maxim-ic.com/en/ds/MAX16072-MAX16074.pdf; ComponentLink3Description: Package Specification; ComponentLink3URL: http://pdfserv.maxim-ic.com/package_dwgs/21-0242.PDF
footprint R41C1+1 (BGA, 4-Leads, Body 1.1x1.1mm, Pitch 0.5mm)
pins: A1 GND (power), A2 VCC (power), B1 RESET (out), B2 ~{MR} (in)

## MAX16073RS24D3+T
designator U?
uP Supervisory Circuit, push-pull active-high reset, 4-Pin UCSP, -40°C to +85°C, Pb-Free, Tape and Reel; DatasheetVersion: Rev 0, Jan-2010; PackageVersion: revA, 2008; PackageReference: R41C1+1; PackageDescription: 4-Bump Ultra Chip-Scale Package 2x2 Array, 1x1 mm Body, 0.5 mm Pitch, UCSP (R), Pb-Free; ComponentLink1Description: Manufacturer URL; ComponentLink1URL: http://www.maxim-ic.com; ComponentLink2Description: Datasheet; ComponentLink2URL: http://datasheets.maxim-ic.com/en/ds/MAX16072-MAX16074.pdf; ComponentLink3Description: Package Specification; ComponentLink3URL: http://pdfserv.maxim-ic.com/package_dwgs/21-0242.PDF
footprint R41C1+1 (BGA, 4-Leads, Body 1.1x1.1mm, Pitch 0.5mm)
pins: A1 GND (power), A2 VCC (power), B1 RESET (out), B2 ~{MR} (in)

## MAX16073RS25D0+T
designator U?
uP Supervisory Circuit, push-pull active-high reset, 4-Pin UCSP, -40°C to +85°C, Pb-Free, Tape and Reel; DatasheetVersion: Rev 0, Jan-2010; PackageVersion: revA, 2008; PackageReference: R41C1+1; PackageDescription: 4-Bump Ultra Chip-Scale Package 2x2 Array, 1x1 mm Body, 0.5 mm Pitch, UCSP (R), Pb-Free; ComponentLink1Description: Manufacturer URL; ComponentLink1URL: http://www.maxim-ic.com; ComponentLink2Description: Datasheet; ComponentLink2URL: http://datasheets.maxim-ic.com/en/ds/MAX16072-MAX16074.pdf; ComponentLink3Description: Package Specification; ComponentLink3URL: http://pdfserv.maxim-ic.com/package_dwgs/21-0242.PDF
footprint R41C1+1 (BGA, 4-Leads, Body 1.1x1.1mm, Pitch 0.5mm)
pins: A1 GND (power), A2 VCC (power), B1 RESET (out), B2 ~{MR} (in)

## MAX16073RS25D1+T
designator U?
uP Supervisory Circuit, push-pull active-high reset, 4-Pin UCSP, -40°C to +85°C, Pb-Free, Tape and Reel; DatasheetVersion: Rev 0, Jan-2010; PackageVersion: revA, 2008; PackageReference: R41C1+1; PackageDescription: 4-Bump Ultra Chip-Scale Package 2x2 Array, 1x1 mm Body, 0.5 mm Pitch, UCSP (R), Pb-Free; ComponentLink1Description: Manufacturer URL; ComponentLink1URL: http://www.maxim-ic.com; ComponentLink2Description: Datasheet; ComponentLink2URL: http://datasheets.maxim-ic.com/en/ds/MAX16072-MAX16074.pdf; ComponentLink3Description: Package Specification; ComponentLink3URL: http://pdfserv.maxim-ic.com/package_dwgs/21-0242.PDF
footprint R41C1+1 (BGA, 4-Leads, Body 1.1x1.1mm, Pitch 0.5mm)
pins: A1 GND (power), A2 VCC (power), B1 RESET (out), B2 ~{MR} (in)

## MAX16073RS25D2+T
designator U?
uP Supervisory Circuit, push-pull active-high reset, 4-Pin UCSP, -40°C to +85°C, Pb-Free, Tape and Reel; DatasheetVersion: Rev 0, Jan-2010; PackageVersion: revA, 2008; PackageReference: R41C1+1; PackageDescription: 4-Bump Ultra Chip-Scale Package 2x2 Array, 1x1 mm Body, 0.5 mm Pitch, UCSP (R), Pb-Free; ComponentLink1Description: Manufacturer URL; ComponentLink1URL: http://www.maxim-ic.com; ComponentLink2Description: Datasheet; ComponentLink2URL: http://datasheets.maxim-ic.com/en/ds/MAX16072-MAX16074.pdf; ComponentLink3Description: Package Specification; ComponentLink3URL: http://pdfserv.maxim-ic.com/package_dwgs/21-0242.PDF
footprint R41C1+1 (BGA, 4-Leads, Body 1.1x1.1mm, Pitch 0.5mm)
pins: A1 GND (power), A2 VCC (power), B1 RESET (out), B2 ~{MR} (in)

## MAX16073RS25D3+T
designator U?
uP Supervisory Circuit, push-pull active-high reset, 4-Pin UCSP, -40°C to +85°C, Pb-Free, Tape and Reel; DatasheetVersion: Rev 0, Jan-2010; PackageVersion: revA, 2008; PackageReference: R41C1+1; PackageDescription: 4-Bump Ultra Chip-Scale Package 2x2 Array, 1x1 mm Body, 0.5 mm Pitch, UCSP (R), Pb-Free; ComponentLink1Description: Manufacturer URL; ComponentLink1URL: http://www.maxim-ic.com; ComponentLink2Description: Datasheet; ComponentLink2URL: http://datasheets.maxim-ic.com/en/ds/MAX16072-MAX16074.pdf; ComponentLink3Description: Package Specification; ComponentLink3URL: http://pdfserv.maxim-ic.com/package_dwgs/21-0242.PDF
footprint R41C1+1 (BGA, 4-Leads, Body 1.1x1.1mm, Pitch 0.5mm)
pins: A1 GND (power), A2 VCC (power), B1 RESET (out), B2 ~{MR} (in)

## MAX16073RS26D0+T
designator U?
uP Supervisory Circuit, push-pull active-high reset, 4-Pin UCSP, -40°C to +85°C, Pb-Free, Tape and Reel; DatasheetVersion: Rev 0, Jan-2010; PackageVersion: revA, 2008; PackageReference: R41C1+1; PackageDescription: 4-Bump Ultra Chip-Scale Package 2x2 Array, 1x1 mm Body, 0.5 mm Pitch, UCSP (R), Pb-Free; ComponentLink1Description: Manufacturer URL; ComponentLink1URL: http://www.maxim-ic.com; ComponentLink2Description: Datasheet; ComponentLink2URL: http://datasheets.maxim-ic.com/en/ds/MAX16072-MAX16074.pdf; ComponentLink3Description: Package Specification; ComponentLink3URL: http://pdfserv.maxim-ic.com/package_dwgs/21-0242.PDF
footprint R41C1+1 (BGA, 4-Leads, Body 1.1x1.1mm, Pitch 0.5mm)
pins: A1 GND (power), A2 VCC (power), B1 RESET (out), B2 ~{MR} (in)

## MAX16073RS26D1+T
designator U?
uP Supervisory Circuit, push-pull active-high reset, 4-Pin UCSP, -40°C to +85°C, Pb-Free, Tape and Reel; DatasheetVersion: Rev 0, Jan-2010; PackageVersion: revA, 2008; PackageReference: R41C1+1; PackageDescription: 4-Bump Ultra Chip-Scale Package 2x2 Array, 1x1 mm Body, 0.5 mm Pitch, UCSP (R), Pb-Free; ComponentLink1Description: Manufacturer URL; ComponentLink1URL: http://www.maxim-ic.com; ComponentLink2Description: Datasheet; ComponentLink2URL: http://datasheets.maxim-ic.com/en/ds/MAX16072-MAX16074.pdf; ComponentLink3Description: Package Specification; ComponentLink3URL: http://pdfserv.maxim-ic.com/package_dwgs/21-0242.PDF
footprint R41C1+1 (BGA, 4-Leads, Body 1.1x1.1mm, Pitch 0.5mm)
pins: A1 GND (power), A2 VCC (power), B1 RESET (out), B2 ~{MR} (in)

## MAX16073RS26D2+T
designator U?
uP Supervisory Circuit, push-pull active-high reset, 4-Pin UCSP, -40°C to +85°C, Pb-Free, Tape and Reel; DatasheetVersion: Rev 0, Jan-2010; PackageVersion: revA, 2008; PackageReference: R41C1+1; PackageDescription: 4-Bump Ultra Chip-Scale Package 2x2 Array, 1x1 mm Body, 0.5 mm Pitch, UCSP (R), Pb-Free; ComponentLink1Description: Manufacturer URL; ComponentLink1URL: http://www.maxim-ic.com; ComponentLink2Description: Datasheet; ComponentLink2URL: http://datasheets.maxim-ic.com/en/ds/MAX16072-MAX16074.pdf; ComponentLink3Description: Package Specification; ComponentLink3URL: http://pdfserv.maxim-ic.com/package_dwgs/21-0242.PDF
footprint R41C1+1 (BGA, 4-Leads, Body 1.1x1.1mm, Pitch 0.5mm)
pins: A1 GND (power), A2 VCC (power), B1 RESET (out), B2 ~{MR} (in)

## MAX16073RS26D3+T
designator U?
uP Supervisory Circuit, push-pull active-high reset, 4-Pin UCSP, -40°C to +85°C, Pb-Free, Tape and Reel; DatasheetVersion: Rev 0, Jan-2010; PackageVersion: revA, 2008; PackageReference: R41C1+1; PackageDescription: 4-Bump Ultra Chip-Scale Package 2x2 Array, 1x1 mm Body, 0.5 mm Pitch, UCSP (R), Pb-Free; ComponentLink1Description: Manufacturer URL; ComponentLink1URL: http://www.maxim-ic.com; ComponentLink2Description: Datasheet; ComponentLink2URL: http://datasheets.maxim-ic.com/en/ds/MAX16072-MAX16074.pdf; ComponentLink3Description: Package Specification; ComponentLink3URL: http://pdfserv.maxim-ic.com/package_dwgs/21-0242.PDF
footprint R41C1+1 (BGA, 4-Leads, Body 1.1x1.1mm, Pitch 0.5mm)
pins: A1 GND (power), A2 VCC (power), B1 RESET (out), B2 ~{MR} (in)

## MAX16073RS27D0+T
designator U?
uP Supervisory Circuit, push-pull active-high reset, 4-Pin UCSP, -40°C to +85°C, Pb-Free, Tape and Reel; DatasheetVersion: Rev 0, Jan-2010; PackageVersion: revA, 2008; PackageReference: R41C1+1; PackageDescription: 4-Bump Ultra Chip-Scale Package 2x2 Array, 1x1 mm Body, 0.5 mm Pitch, UCSP (R), Pb-Free; ComponentLink1Description: Manufacturer URL; ComponentLink1URL: http://www.maxim-ic.com; ComponentLink2Description: Datasheet; ComponentLink2URL: http://datasheets.maxim-ic.com/en/ds/MAX16072-MAX16074.pdf; ComponentLink3Description: Package Specification; ComponentLink3URL: http://pdfserv.maxim-ic.com/package_dwgs/21-0242.PDF
footprint R41C1+1 (BGA, 4-Leads, Body 1.1x1.1mm, Pitch 0.5mm)
pins: A1 GND (power), A2 VCC (power), B1 RESET (out), B2 ~{MR} (in)

## MAX16073RS27D1+T
designator U?
uP Supervisory Circuit, push-pull active-high reset, 4-Pin UCSP, -40°C to +85°C, Pb-Free, Tape and Reel; DatasheetVersion: Rev 0, Jan-2010; PackageVersion: revA, 2008; PackageReference: R41C1+1; PackageDescription: 4-Bump Ultra Chip-Scale Package 2x2 Array, 1x1 mm Body, 0.5 mm Pitch, UCSP (R), Pb-Free; ComponentLink1Description: Manufacturer URL; ComponentLink1URL: http://www.maxim-ic.com; ComponentLink2Description: Datasheet; ComponentLink2URL: http://datasheets.maxim-ic.com/en/ds/MAX16072-MAX16074.pdf; ComponentLink3Description: Package Specification; ComponentLink3URL: http://pdfserv.maxim-ic.com/package_dwgs/21-0242.PDF
footprint R41C1+1 (BGA, 4-Leads, Body 1.1x1.1mm, Pitch 0.5mm)
pins: A1 GND (power), A2 VCC (power), B1 RESET (out), B2 ~{MR} (in)

## MAX16073RS27D2+T
designator U?
uP Supervisory Circuit, push-pull active-high reset, 4-Pin UCSP, -40°C to +85°C, Pb-Free, Tape and Reel; DatasheetVersion: Rev 0, Jan-2010; PackageVersion: revA, 2008; PackageReference: R41C1+1; PackageDescription: 4-Bump Ultra Chip-Scale Package 2x2 Array, 1x1 mm Body, 0.5 mm Pitch, UCSP (R), Pb-Free; ComponentLink1Description: Manufacturer URL; ComponentLink1URL: http://www.maxim-ic.com; ComponentLink2Description: Datasheet; ComponentLink2URL: http://datasheets.maxim-ic.com/en/ds/MAX16072-MAX16074.pdf; ComponentLink3Description: Package Specification; ComponentLink3URL: http://pdfserv.maxim-ic.com/package_dwgs/21-0242.PDF
footprint R41C1+1 (BGA, 4-Leads, Body 1.1x1.1mm, Pitch 0.5mm)
pins: A1 GND (power), A2 VCC (power), B1 RESET (out), B2 ~{MR} (in)

## MAX16073RS27D3+T
designator U?
uP Supervisory Circuit, push-pull active-high reset, 4-Pin UCSP, -40°C to +85°C, Pb-Free, Tape and Reel; DatasheetVersion: Rev 0, Jan-2010; PackageVersion: revA, 2008; PackageReference: R41C1+1; PackageDescription: 4-Bump Ultra Chip-Scale Package 2x2 Array, 1x1 mm Body, 0.5 mm Pitch, UCSP (R), Pb-Free; ComponentLink1Description: Manufacturer URL; ComponentLink1URL: http://www.maxim-ic.com; ComponentLink2Description: Datasheet; ComponentLink2URL: http://datasheets.maxim-ic.com/en/ds/MAX16072-MAX16074.pdf; ComponentLink3Description: Package Specification; ComponentLink3URL: http://pdfserv.maxim-ic.com/package_dwgs/21-0242.PDF
footprint R41C1+1 (BGA, 4-Leads, Body 1.1x1.1mm, Pitch 0.5mm)
pins: A1 GND (power), A2 VCC (power), B1 RESET (out), B2 ~{MR} (in)

## MAX16073RS28D0+T
designator U?
uP Supervisory Circuit, push-pull active-high reset, 4-Pin UCSP, -40°C to +85°C, Pb-Free, Tape and Reel; DatasheetVersion: Rev 0, Jan-2010; PackageVersion: revA, 2008; PackageReference: R41C1+1; PackageDescription: 4-Bump Ultra Chip-Scale Package 2x2 Array, 1x1 mm Body, 0.5 mm Pitch, UCSP (R), Pb-Free; ComponentLink1Description: Manufacturer URL; ComponentLink1URL: http://www.maxim-ic.com; ComponentLink2Description: Datasheet; ComponentLink2URL: http://datasheets.maxim-ic.com/en/ds/MAX16072-MAX16074.pdf; ComponentLink3Description: Package Specification; ComponentLink3URL: http://pdfserv.maxim-ic.com/package_dwgs/21-0242.PDF
footprint R41C1+1 (BGA, 4-Leads, Body 1.1x1.1mm, Pitch 0.5mm)
pins: A1 GND (power), A2 VCC (power), B1 RESET (out), B2 ~{MR} (in)

## MAX16073RS28D1+T
designator U?
uP Supervisory Circuit, push-pull active-high reset, 4-Pin UCSP, -40°C to +85°C, Pb-Free, Tape and Reel; DatasheetVersion: Rev 0, Jan-2010; PackageVersion: revA, 2008; PackageReference: R41C1+1; PackageDescription: 4-Bump Ultra Chip-Scale Package 2x2 Array, 1x1 mm Body, 0.5 mm Pitch, UCSP (R), Pb-Free; ComponentLink1Description: Manufacturer URL; ComponentLink1URL: http://www.maxim-ic.com; ComponentLink2Description: Datasheet; ComponentLink2URL: http://datasheets.maxim-ic.com/en/ds/MAX16072-MAX16074.pdf; ComponentLink3Description: Package Specification; ComponentLink3URL: http://pdfserv.maxim-ic.com/package_dwgs/21-0242.PDF
footprint R41C1+1 (BGA, 4-Leads, Body 1.1x1.1mm, Pitch 0.5mm)
pins: A1 GND (power), A2 VCC (power), B1 RESET (out), B2 ~{MR} (in)

## MAX16073RS28D2+T
designator U?
uP Supervisory Circuit, push-pull active-high reset, 4-Pin UCSP, -40°C to +85°C, Pb-Free, Tape and Reel; DatasheetVersion: Rev 0, Jan-2010; PackageVersion: revA, 2008; PackageReference: R41C1+1; PackageDescription: 4-Bump Ultra Chip-Scale Package 2x2 Array, 1x1 mm Body, 0.5 mm Pitch, UCSP (R), Pb-Free; ComponentLink1Description: Manufacturer URL; ComponentLink1URL: http://www.maxim-ic.com; ComponentLink2Description: Datasheet; ComponentLink2URL: http://datasheets.maxim-ic.com/en/ds/MAX16072-MAX16074.pdf; ComponentLink3Description: Package Specification; ComponentLink3URL: http://pdfserv.maxim-ic.com/package_dwgs/21-0242.PDF
footprint R41C1+1 (BGA, 4-Leads, Body 1.1x1.1mm, Pitch 0.5mm)
pins: A1 GND (power), A2 VCC (power), B1 RESET (out), B2 ~{MR} (in)

## MAX16073RS28D3+T
designator U?
uP Supervisory Circuit, push-pull active-high reset, 4-Pin UCSP, -40°C to +85°C, Pb-Free, Tape and Reel; DatasheetVersion: Rev 0, Jan-2010; PackageVersion: revA, 2008; PackageReference: R41C1+1; PackageDescription: 4-Bump Ultra Chip-Scale Package 2x2 Array, 1x1 mm Body, 0.5 mm Pitch, UCSP (R), Pb-Free; ComponentLink1Description: Manufacturer URL; ComponentLink1URL: http://www.maxim-ic.com; ComponentLink2Description: Datasheet; ComponentLink2URL: http://datasheets.maxim-ic.com/en/ds/MAX16072-MAX16074.pdf; ComponentLink3Description: Package Specification; ComponentLink3URL: http://pdfserv.maxim-ic.com/package_dwgs/21-0242.PDF
footprint R41C1+1 (BGA, 4-Leads, Body 1.1x1.1mm, Pitch 0.5mm)
pins: A1 GND (power), A2 VCC (power), B1 RESET (out), B2 ~{MR} (in)

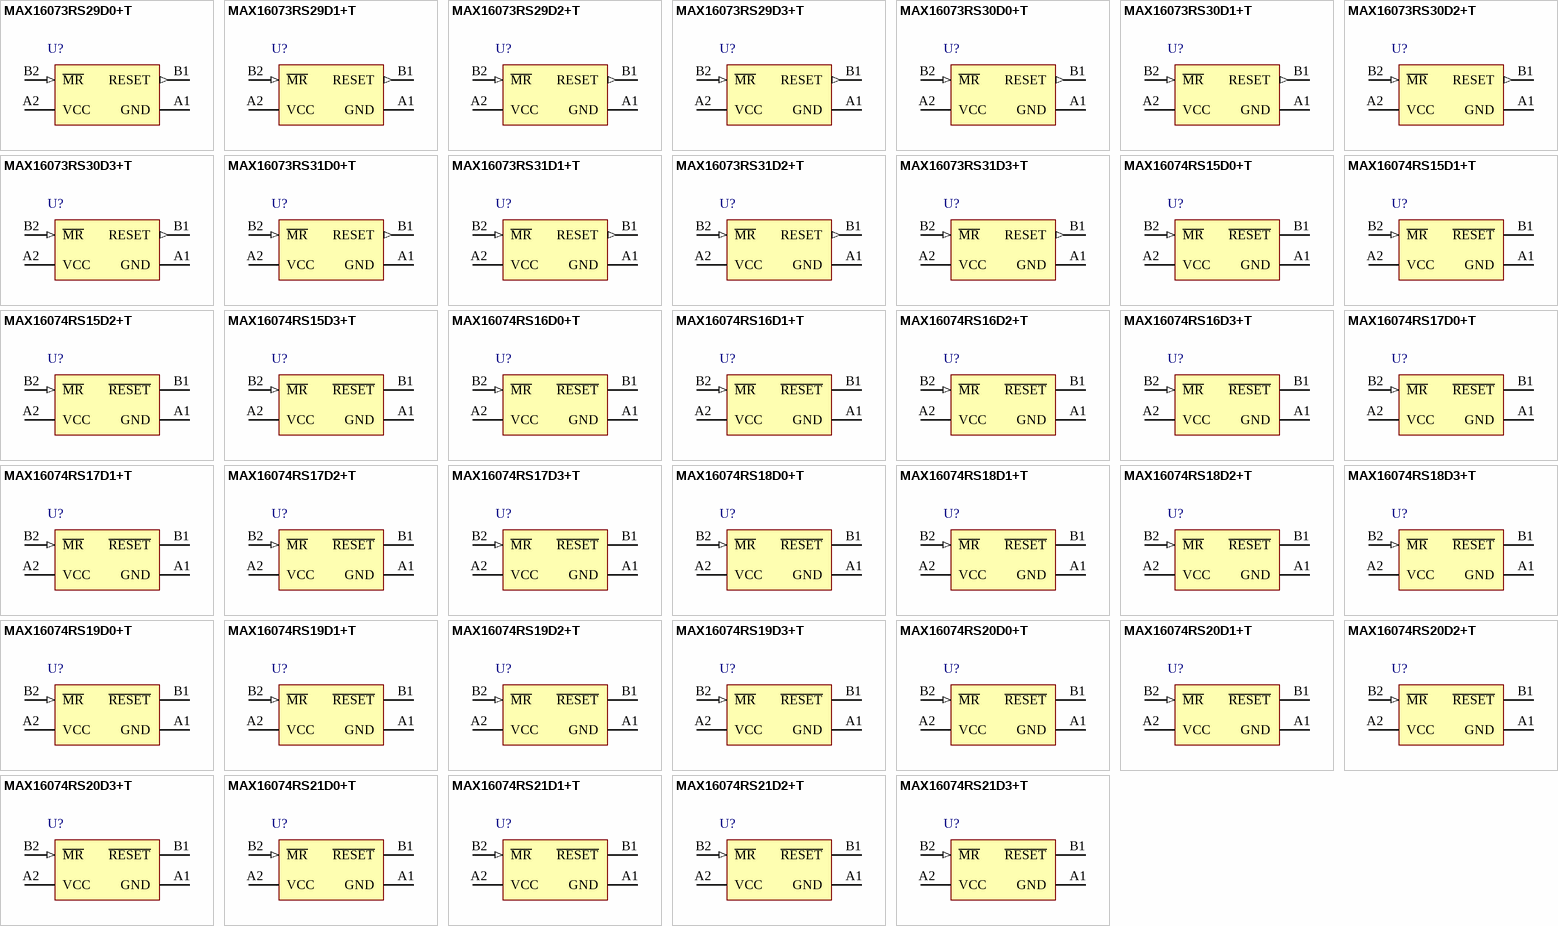
[diagram p15: symbols MAX16073RS29D0+T to MAX16074RS21D3+T]

## MAX16073RS29D0+T
designator U?
uP Supervisory Circuit, push-pull active-high reset, 4-Pin UCSP, -40°C to +85°C, Pb-Free, Tape and Reel; DatasheetVersion: Rev 0, Jan-2010; PackageVersion: revA, 2008; PackageReference: R41C1+1; PackageDescription: 4-Bump Ultra Chip-Scale Package 2x2 Array, 1x1 mm Body, 0.5 mm Pitch, UCSP (R), Pb-Free; ComponentLink1Description: Manufacturer URL; ComponentLink1URL: http://www.maxim-ic.com; ComponentLink2Description: Datasheet; ComponentLink2URL: http://datasheets.maxim-ic.com/en/ds/MAX16072-MAX16074.pdf; ComponentLink3Description: Package Specification; ComponentLink3URL: http://pdfserv.maxim-ic.com/package_dwgs/21-0242.PDF
footprint R41C1+1 (BGA, 4-Leads, Body 1.1x1.1mm, Pitch 0.5mm)
pins: A1 GND (power), A2 VCC (power), B1 RESET (out), B2 ~{MR} (in)